# Altium schematic symbol library 100046138_block_diagram.SchLib: 45 symbols
Pins are listed as number, name and electrical type; pins without a type are passive.

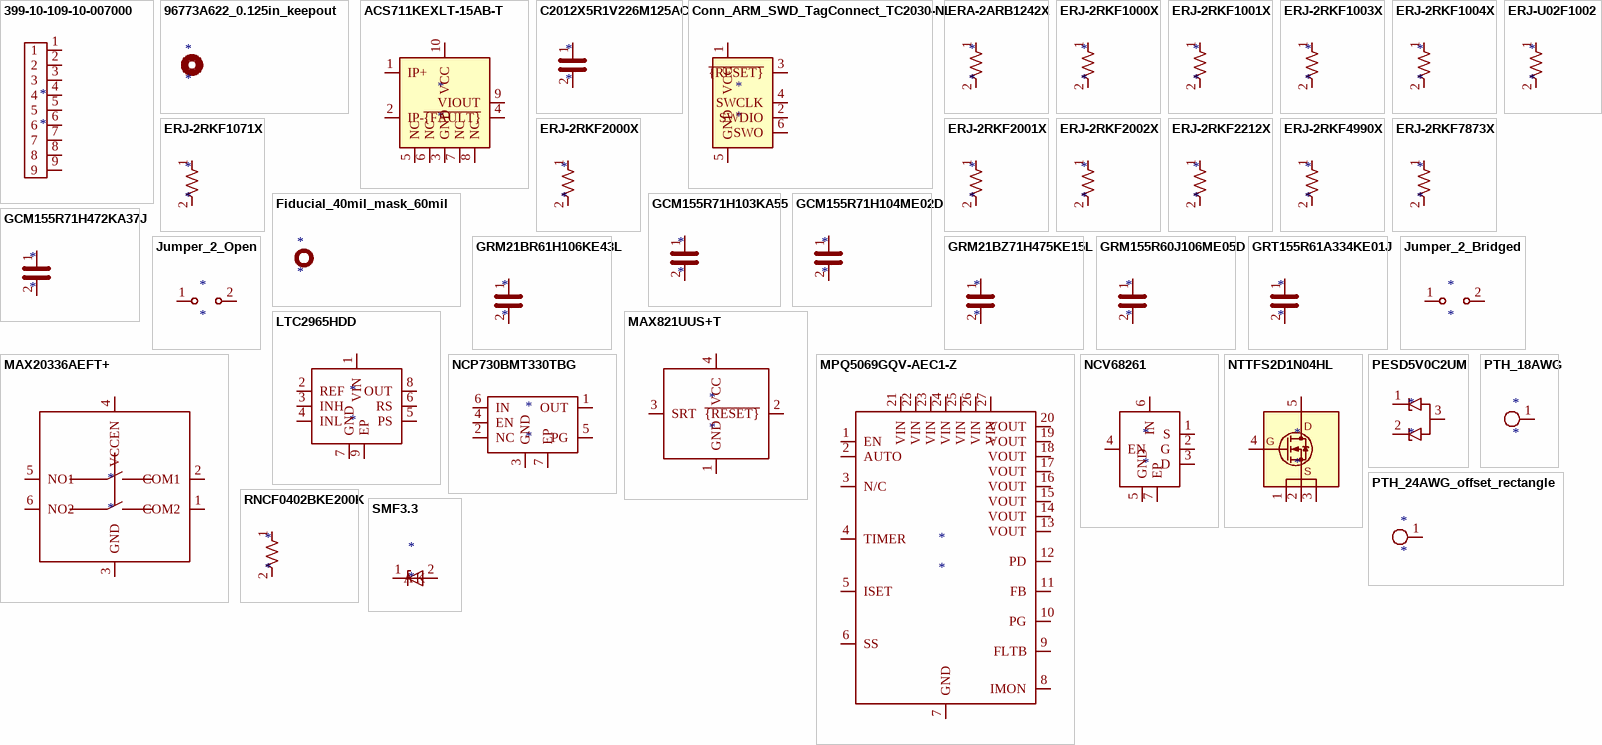
[diagram p0: symbols 399-10-109-10-007000 to SMF3.3]

## 399-10-109-10-007000
designator *
pins: 1, 2, 3, 4, 5, 6, 7, 8, 9

## 96773A622_0.125in_keepout
designator *

## ACS711KEXLT-15AB-T
designator *
pins: 1 IP+, 2 IP-, 3 GND, 4 ~{{FAULT}}, 5 NC, 6 NC, 7 NC, 8 NC, 9 VIOUT, 10 VCC

## C2012X5R1V226M125AC
designator *
pins: 1, 2

## Conn_ARM_SWD_TagConnect_TC2030-NL
designator *
pins: 1 VCC, 2 SWDIO, 3 ~{{RESET}}, 4 SWCLK, 5 GND, 6 SWO

## ERA-2ARB1242X
designator *
pins: 1, 2

## ERJ-2RKF1000X
designator *
pins: 1, 2

## ERJ-2RKF1001X
designator *
pins: 1, 2

## ERJ-2RKF1003X
designator *
pins: 1, 2

## ERJ-2RKF1004X
designator *
pins: 1, 2

## ERJ-2RKF1071X
designator *
pins: 1, 2

## ERJ-2RKF2000X
designator *
pins: 1, 2

## ERJ-2RKF2001X
designator *
pins: 1, 2

## ERJ-2RKF2002X
designator *
pins: 1, 2

## ERJ-2RKF2212X
designator *
pins: 1, 2

## ERJ-2RKF4990X
designator *
pins: 1, 2

## ERJ-2RKF7873X
designator *
pins: 1, 2

## ERJ-U02F1002
designator *
pins: 1, 2

## Fiducial_40mil_mask_60mil
designator *

## GCM155R71H103KA55
designator *
pins: 1, 2

## GCM155R71H104ME02D
designator *
pins: 1, 2

## GCM155R71H472KA37J
designator *
pins: 1, 2

## GRM21BR61H106KE43L
designator *
pins: 1, 2

## GRM21BZ71H475KE15L
designator *
pins: 1, 2

## GRM155R60J106ME05D
designator *
pins: 1, 2

## GRT155R61A334KE01J
designator *
pins: 1, 2

## Jumper_2_Bridged
designator *
pins: 1 A, 2 B

## Jumper_2_Open
designator *
pins: 1 A, 2 B

## LTC2965HDD
designator *
pins: 1 VIN, 2 REF, 3 INH, 4 INL, 5 PS, 6 RS, 7 GND, 8 OUT, 9 EP

## MAX821UUS+T
designator *
pins: 1 GND, 2 ~{{RESET}}, 3 SRT, 4 VCC

## MAX20336AEFT+
designator *
pins: 1 COM2, 2 COM1, 3 GND, 4 VCCEN, 5 NO1, 6 NO2

## MPQ5069GQV-AEC1-Z
designator *
pins: 1 EN, 2 AUTO, 3 N/C, 4 TIMER, 5 ISET, 6 SS, 7 GND, 8 IMON, 9 FLTB, 10 PG, 11 FB, 12 PD, 13 VOUT, 14 VOUT, 15 VOUT, 16 VOUT, 17 VOUT, 18 VOUT, 19 VOUT, 20 VOUT, 21 VIN, 22 VIN, 23 VIN, 24 VIN, 25 VIN, 26 VIN, 27 VIN

## NCP730BMT330TBG
designator *
pins: 1 OUT, 2 NC, 3 GND, 4 EN, 5 PG, 6 IN, 7 EP

## NCV68261
designator *
pins: 1 S, 2 G, 3 D, 4 EN, 5 GND, 6 IN, 7 EP

## NTTFS2D1N04HL
designator *
pins: 1 S, 2 S, 3 S, 4 G, 5 D

## PESD5V0C2UM
designator *
pins: 1 K1, 2 K2, 3 A

## PTH_18AWG
designator *
pins: 1

## PTH_24AWG_offset_rectangle
designator *
pins: 1

## RNCF0402BKE200K
designator *
pins: 1, 2

## SMF3.3
designator *
pins: 1 K, 2 A

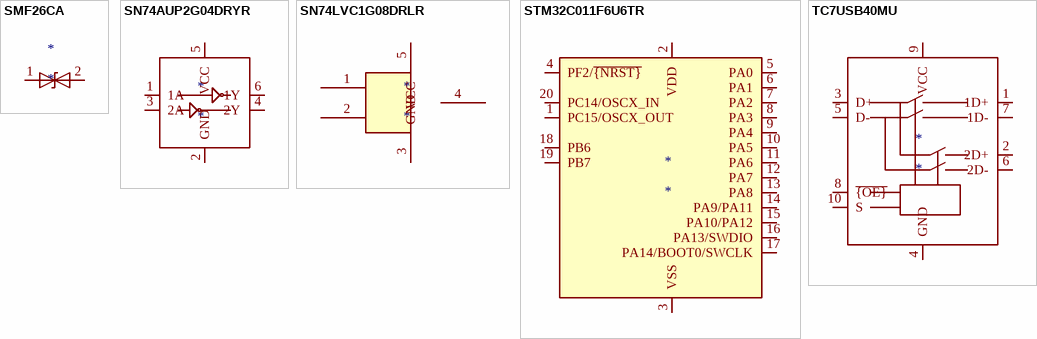
[diagram p1: symbols SMF26CA to TC7USB40MU]

## SMF26CA
designator *
pins: 1 A1, 2 A2

## SN74AUP2G04DRYR
designator *
pins: 1 1A, 2 GND, 3 2A, 4 2Y, 5 VCC, 6 1Y

## SN74LVC1G08DRLR
designator *
pins: 1, 2, 3 GND, 4, 5 VCC

## STM32C011F6U6TR
designator *
pins: 1 PC15/OSCX_OUT, 2 VDD, 3 VSS, 4 PF2/~{{NRST}}, 5 PA0, 6 PA1, 7 PA2, 8 PA3, 9 PA4, 10 PA5, 11 PA6, 12 PA7, 13 PA8, 14 PA9/PA11, 15 PA10/PA12, 16 PA13/SWDIO, 17 PA14/BOOT0/SWCLK, 18 PB6, 19 PB7, 20 PC14/OSCX_IN

## TC7USB40MU
designator *
pins: 1 1D+, 2 2D+, 3 D+, 4 GND, 5 D-, 6 2D-, 7 1D-, 8 ~{{OE}}, 9 VCC, 10 S